# EAGLE library part SWITCH-SLIDE-HAOYU-SK-23D07G4 (library LITTLEBITS140915)
Slide Switch DP3T
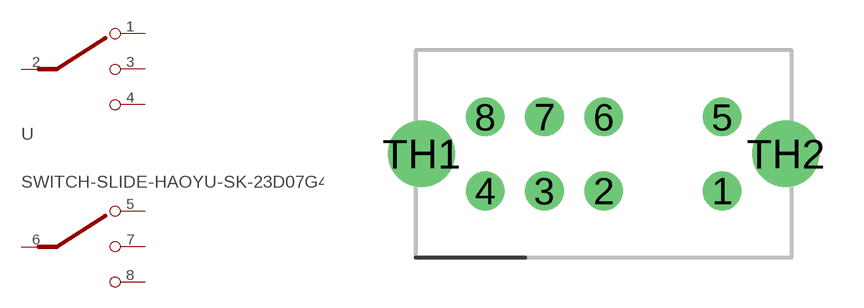
[diagram p45: symbol with the pads of SWITCH-SLIDE-HAOYU-SK-23D07G4; footprint SWITCH-SLIDE-HAOYU-SK-23D07G4]

Designator prefix -

## SWITCH-SLIDE-HAOYU-SK-23D07G4 (MFG: HAOYU; MPN: SK-23D07G4)  [SWITCH-SLIDE-HAOYU-SK-23D07G4]
1  P$1  pas
2  P$2  pas
3  P$3  pas
4  P$4  pas
5  P$5  pas
6  P$6  pas
7  P$7  pas
8  P$8  pas

## Footprint SWITCH-SLIDE-HAOYU-SK-23D07G4 (pad centres in mm)
drill 0.8: 1 10.15,-1.25; 2 6.15,-1.25; 3 4.15,-1.25; 4 2.15,-1.25; 5 10.15,1.25; 6 6.15,1.25; 7 4.15,1.25; 8 2.15,1.25
drill 1.5: TH1 0,0; TH2 12.3,0